# EAGLE library part ACRK-12-05-X-X-B1-X-X (library hsk_2012)
2x 5.6A + 4x 1.2A / pin Achtung, Pinbelegung prüfen, evtl. --S-- Variante benutzen
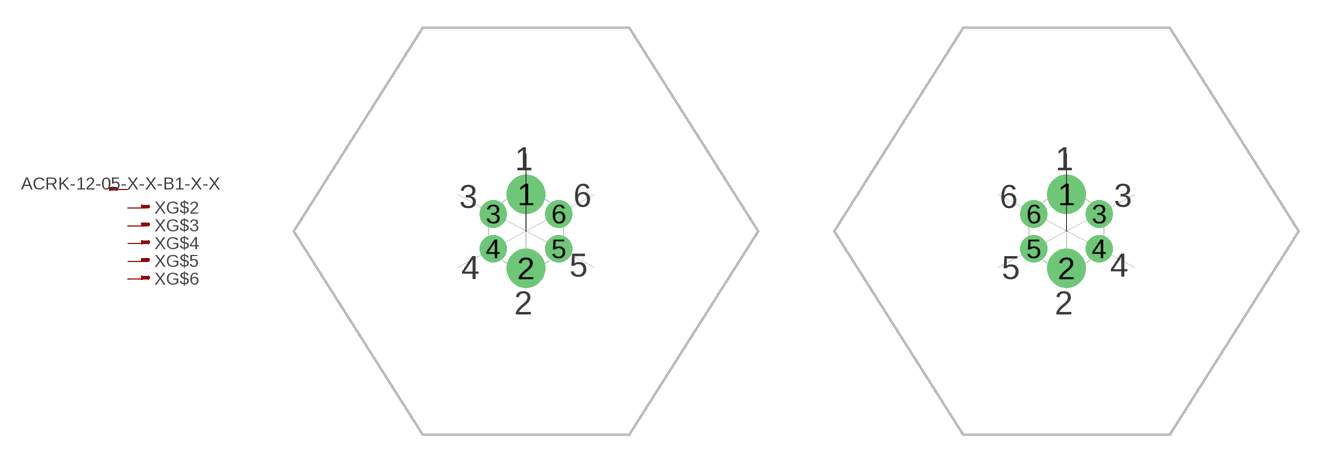
[diagram p43: symbol with the pads of ACRK-12-05-X-S-B1-X-X; footprints ACRK-12-05-X-S-B1-X-X, ACRK-12-05-X-T-B1-X-X]

Designator prefix X; gates G$1=SINGLE_PAD G$2=CON G$3=CON G$4=CON G$5=CON G$6=CON

## ACRK-12-05-X-X-B1-X-X_S  [ACRK-12-05-X-S-B1-X-X]
1  G$1:1
2  G$2:CON
3  G$3:CON
4  G$4:CON
5  G$5:CON
6  G$6:CON

## ACRK-12-05-X-X-B1-X-X_T  [ACRK-12-05-X-T-B1-X-X]
Pads as for ACRK-12-05-X-S-B1-X-X

## Footprint ACRK-12-05-X-S-B1-X-X (pad centres in mm)
drill 1.2 pad 2.1: 1 0,2; 2 0,-2
drill 0.9 pad 1.48: 3 -1.77,0.94; 4 -1.77,-0.94; 5 1.77,-0.94; 6 1.77,0.94

## Footprint ACRK-12-05-X-T-B1-X-X (pad centres in mm)
drill 1.2 pad 2.1: 1 0,2; 2 0,-2
drill 0.9 pad 1.48: 3 1.77,0.94; 4 1.77,-0.94; 5 -1.77,-0.94; 6 -1.77,0.94